# Altium footprint library 1757242.PcbLib: 1 footprints
Each footprint in its own frame and in the unit in brackets; x right, y up, seen from the top. Pads: shape width x height; smd on the part's side, far side on the other; paste and mask are expansions set on the pad; w line width, h text height; cw(c..) or ccw(c..) is an arc to the next point about the centre after c.
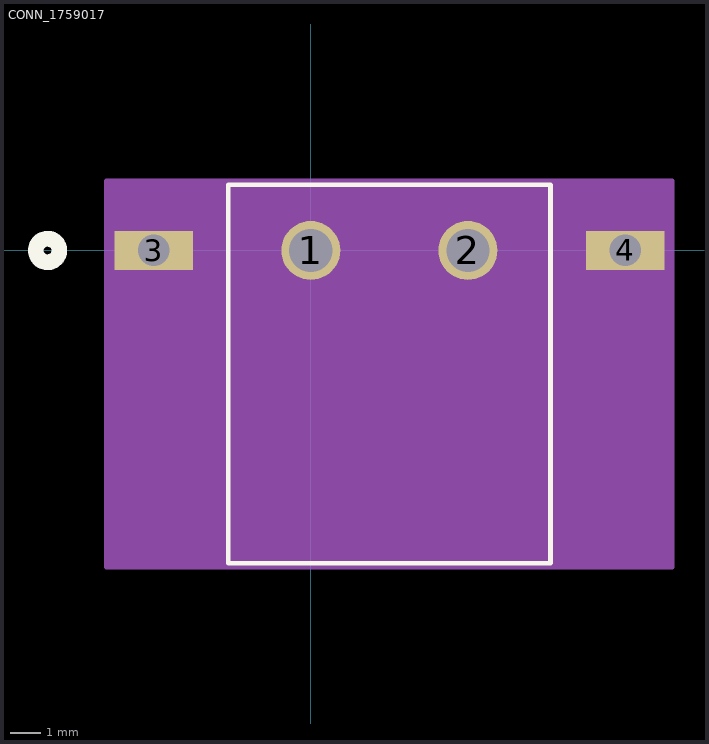
[diagram p0: the footprint, top view; thin cyan lines are the x and y axes]

## CONN_1759017 [mil]
pads (4):
  round 75 hole 55 paste-37.5 mask+0: 1(0,0) 2(200,0)
  rect 100x50 hole 40 paste-50 mask+0: 3(-200,0) 4(400,0)
Top Overlay:
  circle w20: c-335,0 r15
  lines w6: -105,-398.26 305,-398.26 305,83.74 -105,83.74 -105,-398.26
  text ".Designator" at -37.5,-25 h50
Bottom Overlay:
  circle w20: c-335,0 r15
Mechanical 13:
  circle w20: c0,0 r15
  lines w1: -100,-393.26 300,-393.26 300,78.74 -100,78.74 -100,-393.26
  text ".Designator" at -37.5,-25 h50
Mechanical 15:
  region: 460,88.74 -260,88.74 -260,-403.26 460,-403.26
  lines w6: -260,-403.26 -260,88.74 460,88.74 460,-403.26 -260,-403.26